# EAGLE library part EVJ (library Panasonic-Trimmer_Potentiometers)
12 mm Square Two-in-One Rotary Potentiometers (Dual Type)
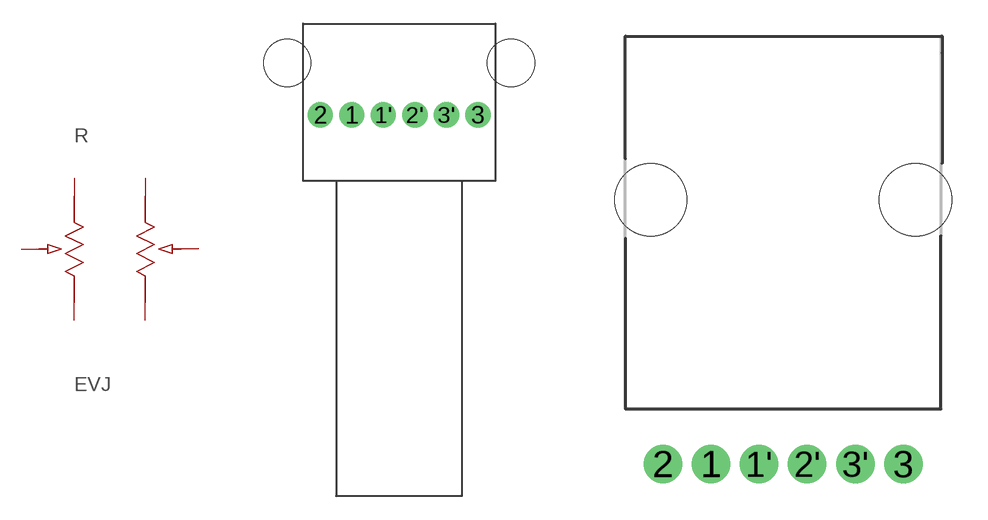
[diagram p1: symbol with the pads of POT_EVJC20; footprints POT_EVJC20, POT_EVJY91]

Designator prefix R

## EVJC20F02A14-JC2 (MPN: EVJC20F02A14; OC_FARNELL: 2284569; OC_NEWARK: 52W2256; PACKAGE: TH-POT; SUPPLIER: PANASONIC; VALUE: 500KOHM, 50mW)  [POT_EVJC20]
1  1  pas
1'  1'  pas
2  2  pas
2'  2'  pas
3  3  pas
3'  3'  pas

## EVJY91F03B14-JY9 (MPN: EVJY91F03B14; OC_FARNELL: 2284570; OC_NEWARK: 52W2276; PACKAGE: TH-POT; SUPPLIER: PANASONIC; VALUE: 500KOHM, 50mW)  [POT_EVJY91]
Pads as for POT_EVJC20

## Footprint POT_EVJC20 (pad centres in mm)
drill 0.8 pad 1.6: 1 -3,0; 1' -1,0; 2 -5,0; 2' 1,0; 3 5,0; 3' 3,0
hole 3 at -7.1,3.3
hole 3 at 7.1,3.3

## Footprint POT_EVJY91 (pad centres in mm)
drill 0.8 pad 1.6: 1 -3,0; 1' -1,0; 2 -5,0; 2' 1,0; 3 5,0; 3' 3,0
hole 3 at -5.5,11
hole 3 at 5.5,11